# EAGLE library part ADXRS290BCEZ (library SamacSys_Parts)
Analog Devices ADXRS290BCEZ 2-Axis Gyroscope, 20 480 Hz, 2.7 5 V 18-Pin LGA Source: Datasheet <http://www.analog.com/media/en/technical-documentation/data-sheets/ADXRS290.pdf>
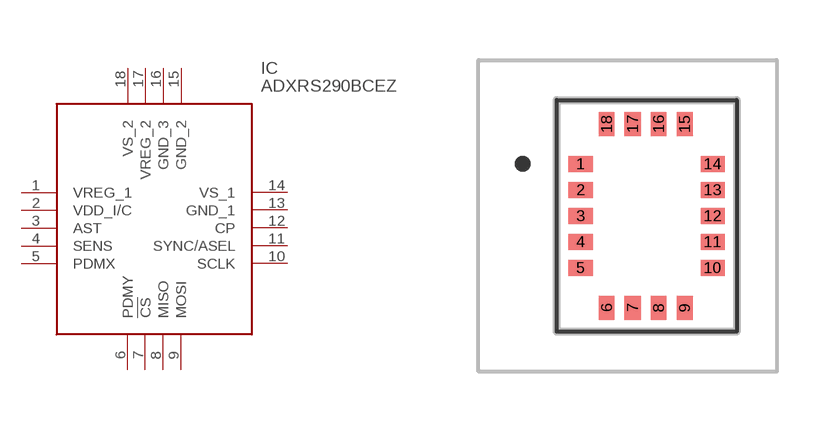
[diagram p4: symbol with the pads of ADXRS290BCEZ; footprint ADXRS290BCEZ]

Designator prefix IC

## ADXRS290BCEZ (DESCRIPTION: Analog Devices ADXRS290BCEZ 2-Axis Gyroscope, 20 480 Hz, 2.7 5 V 18-Pin LGA; HEIGHT: 1mm; MANUFACTURER_NAME: Analog Devices; MANUFACTURER_PART_NUMBER: ADXRS290BCEZ; MOUSER_PART_NUMBER: 584-ADXRS290BCEZ; MOUSER_PRICE-STOCK: https://www.mouser.co.uk/ProductDetail/Analog-Devices/ADXRS290BCEZ?qs=wFnXgzJ2EGPcmlYC5de3nA%3D%3D)  [ADXRS290BCEZ]
1  VREG_1
2  VDD_I/C
3  AST
4  SENS
5  PDMX
6  PDMY
7  !CS
8  MISO
9  MOSI
10  SCLK
11  SYNC/ASEL
12  CP
13  GND_1
14  VS_1
15  GND_2
16  GND_3
17  VREG_2
18  VS_2

## Footprint ADXRS290BCEZ (pad centres in mm)
CE-18-2
smd 0.6 x 0.4: 1 -1.175,1.3; 2 -1.175,0.65; 3 -1.175,0; 4 -1.175,-0.65; 5 -1.175,-1.3; 10 2.125,-1.3; 11 2.125,-0.65; 12 2.125,0; 13 2.125,0.65; 14 2.125,1.3
smd 0.4 x 0.6: 6 -0.525,-2.3; 7 0.125,-2.3; 8 0.775,-2.3; 9 1.425,-2.3; 15 1.425,2.3; 16 0.775,2.3; 17 0.125,2.3; 18 -0.525,2.3